# Altium schematic symbol library TCRT5000.SchLib: 1 symbol
Pins are listed as number, name and electrical type; pins without a type are passive.

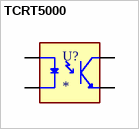
[diagram p0: symbol TCRT5000]

## TCRT5000
designator U?
950 nm 60 mA Through Hole Reflective Optical Sensor with Transistor Output; MP: TCRT5000; Availability: Unavailable; Value: *; Price: None; Package: None
footprint TCRT5000
pins: A, CATH, COLL, E